# Altium integrated library SAMTEC-CES-119-01-X-S.IntLib: 1 symbol
Pins are listed as number, name and electrical type; pins without a type are passive.

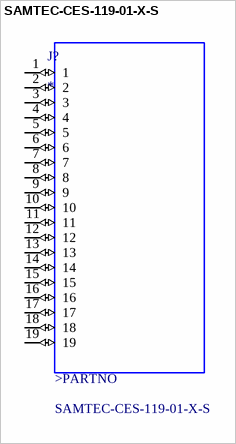
[diagram p0: symbol SAMTEC-CES-119-01-X-S]

## SAMTEC-CES-119-01-X-S
designator J?
MP: SAMTEC-CES-119-01-X-S; Package: None; Price: None; Value: *; Availability: Unavailable
footprint SAMTEC-CES-119-01-X-S
pins: 1 (io), 2 (io), 3 (io), 4 (io), 5 (io), 6 (io), 7 (io), 8 (io), 9 (io), 10 (io), 11 (io), 12 (io), 13 (io), 14 (io), 15 (io), 16 (io), 17 (io), 18 (io), 19 (io)
text: >PARTNO